# Altium schematic symbol library ModularPayload.SchLib: 60 symbols
Pins are listed as number, name and electrical type; pins without a type are passive.

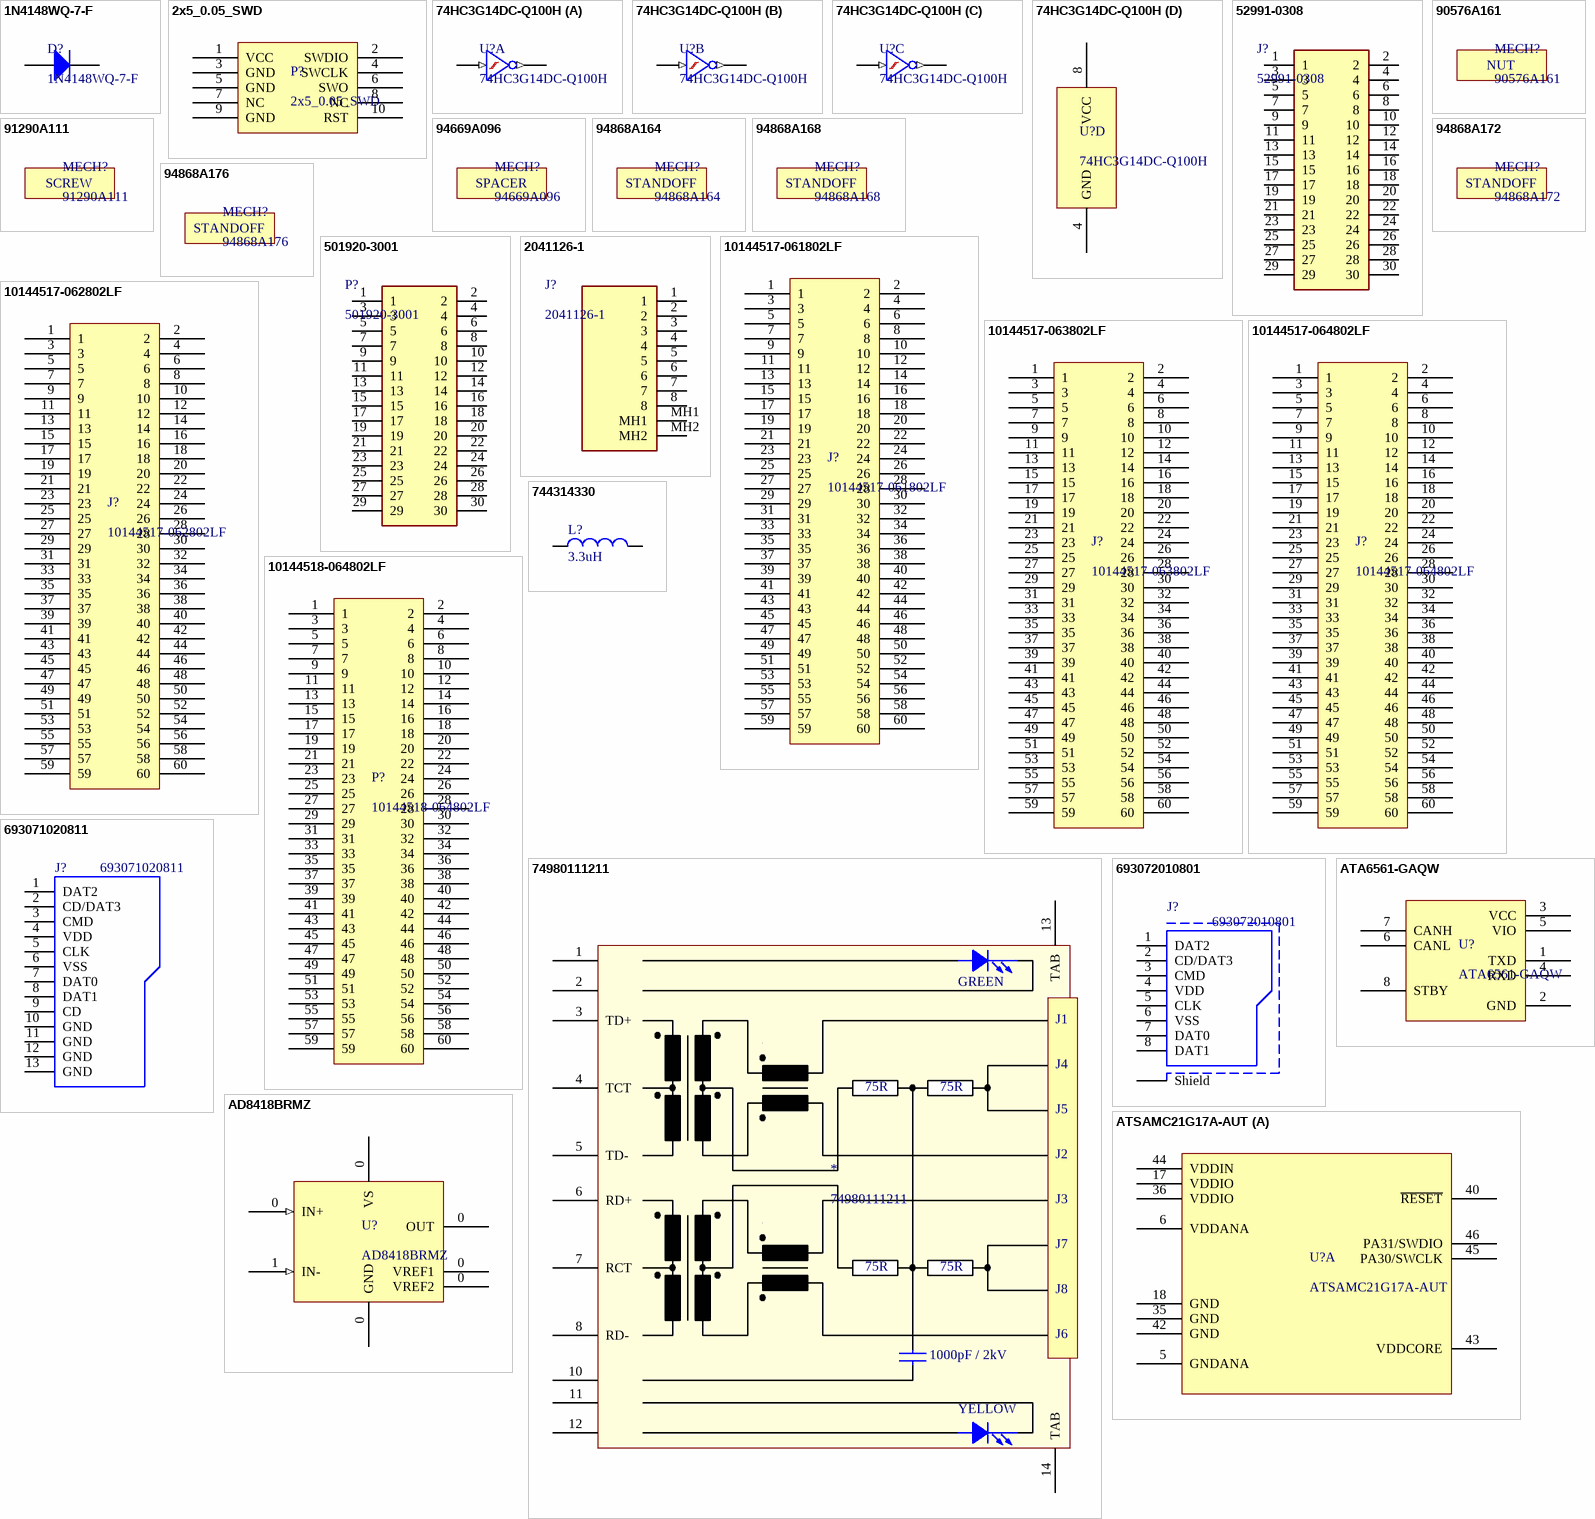
[diagram p0: symbols 1N4148WQ-7-F to ATSAMC21G17A-AUT]

## 1N4148WQ-7-F
designator D?
DIODE GEN PURP 100V 300MA SOD123; Unit Price (USD): 0.19
footprint SOD123 (SOD123 2-Leads, Body 1.55x2.70mm, Pitch 0.50mm, IPC Medium Density)
pins: A, A, K, K

## 2x5_0.05_SWD
designator P?
Unit Price (USD): 0.75
footprint 2x5_0.05_R
pins: 1 VCC, 2 SWDIO, 3 GND, 4 SWCLK, 5 GND, 6 SWO, 7 NC, 8 NC, 9 GND, 10 RST

## 74HC3G14DC-Q100H
designator U?
IC INVERTER SCHMITT 3CH 8VSSOP; Unit Price (USD): 0.66
footprint TSSOP50P310X100-8N (74HC3G14DC-Q100H) (TSSOP, 8-Leads, Body 2.00x2.30mm, Pitch 0.50mm, IPC Medium Density)
part A pins: 1 1A (in), 7 1Y (out)
part B pins: 3 2A (in), 5 2Y (out)
part C pins: 2 3Y (out), 6 3A (in)
part D pins: 4 GND, 8 VCC

## 52991-0308
designator J?
CONN RCPT 30POS SMD GOLD; Manufacturer_Name: Molex; Unit Price (USD): 1.43; Datasheet Link: https://www.molex.com/pdm_docs/sd/529910308_sd.pdf; Height: 2.47mm; Manufacturer_Part_Number: 52991-0308
footprint 529910308
pins: 1, 2, 3, 4, 5, 6, 7, 8, 9, 10, 11, 12, 13, 14, 15, 16, 17, 18, 19, 20, 21, 22, 23, 24, 25, 26, 27, 28, 29, 30

## 90576A161
designator MECH?
Unit Price (USD): 0.27
footprint 90576A161
text: NUT

## 91290A111
designator MECH?
Unit Price (USD): 0.0871
footprint 91290A111 (Footprint not found)
text: SCREW

## 94669A096
designator MECH?
Unit Price (USD): 0.41
footprint 94669A096 (Footprint not found)
text: SPACER

## 94868A164
designator MECH?
Unit Price (USD): 1..10
footprint 94868A164 (Footprint not found)
text: STANDOFF

## 94868A168
designator MECH?
Unit Price (USD): 1.30
footprint 94868A168 (Footprint not found)
text: STANDOFF

## 94868A172
designator MECH?
Unit Price (USD): 1.31
footprint 94868A172 (Footprint not found)
text: STANDOFF

## 94868A176
designator MECH?
Unit Price (USD): 1.32
footprint 94868A176 (Footprint not found)
text: STANDOFF

## 501920-3001
designator P?
CONN PLUG 30POS SMD GOLD; Manufacturer_Name: Molex; Unit Price (USD): 2.86; Datasheet Link: https://www.molex.com/pdm_docs/sd/5019203001_sd.pdf; Height: 3.62mm; Manufacturer_Part_Number: 501920-3001
footprint 5019203001
pins: 1, 2, 3, 4, 5, 6, 7, 8, 9, 10, 11, 12, 13, 14, 15, 16, 17, 18, 19, 20, 21, 22, 23, 24, 25, 26, 27, 28, 29, 30

## 2041126-1
designator J?
CONN MOD JACK 8P8C R/A SHLD; Unit Price (USD): 2.20
footprint TE_2041126-1
pins: 1, 2, 3, 4, 5, 6, 7, 8, MH1, MH2

## 10144517-061802LF
designator J?
CONN RCPT 60POS SMD GOLD; Unit Price (USD): 1.16
footprint 10144517-061802LF
pins: 1, 2, 3, 4, 5, 6, 7, 8, 9, 10, 11, 12, 13, 14, 15, 16, 17, 18, 19, 20, 21, 22, 23, 24, 25, 26, 27, 28, 29, 30, 31, 32, 33, 34, 35, 36, 37, 38, 39, 40, 41, 42, 43, 44, 45, 46, 47, 48, 49, 50, 51, 52, 53, 54, 55, 56, 57, 58, 59, 60

## 10144517-062802LF
designator J?
CONN RCPT 60POS SMD GOLD; Unit Price (USD): 1.28
footprint 10144517-062802LF
pins: 1, 2, 3, 4, 5, 6, 7, 8, 9, 10, 11, 12, 13, 14, 15, 16, 17, 18, 19, 20, 21, 22, 23, 24, 25, 26, 27, 28, 29, 30, 31, 32, 33, 34, 35, 36, 37, 38, 39, 40, 41, 42, 43, 44, 45, 46, 47, 48, 49, 50, 51, 52, 53, 54, 55, 56, 57, 58, 59, 60

## 10144517-063802LF
designator J?
CONN RCPT 60POS SMD GOLD; Unit Price (USD): 1.40
footprint 10144517-063802LF
pins: 1, 2, 3, 4, 5, 6, 7, 8, 9, 10, 11, 12, 13, 14, 15, 16, 17, 18, 19, 20, 21, 22, 23, 24, 25, 26, 27, 28, 29, 30, 31, 32, 33, 34, 35, 36, 37, 38, 39, 40, 41, 42, 43, 44, 45, 46, 47, 48, 49, 50, 51, 52, 53, 54, 55, 56, 57, 58, 59, 60

## 10144517-064802LF
designator J?
CONN RCPT 60POS SMD GOLD; Unit Price (USD): 1.95
footprint 10144517-064802LF
pins: 1, 2, 3, 4, 5, 6, 7, 8, 9, 10, 11, 12, 13, 14, 15, 16, 17, 18, 19, 20, 21, 22, 23, 24, 25, 26, 27, 28, 29, 30, 31, 32, 33, 34, 35, 36, 37, 38, 39, 40, 41, 42, 43, 44, 45, 46, 47, 48, 49, 50, 51, 52, 53, 54, 55, 56, 57, 58, 59, 60

## 10144518-064802LF
designator P?
CONN PLUG 60POS SMD GOLD; Unit Price (USD): 1.52
footprint 10144518-064802LF
pins: 1, 2, 3, 4, 5, 6, 7, 8, 9, 10, 11, 12, 13, 14, 15, 16, 17, 18, 19, 20, 21, 22, 23, 24, 25, 26, 27, 28, 29, 30, 31, 32, 33, 34, 35, 36, 37, 38, 39, 40, 41, 42, 43, 44, 45, 46, 47, 48, 49, 50, 51, 52, 53, 54, 55, 56, 57, 58, 59, 60

## 744314330
designator L?  value 3.3uH  (hidden comment: 744314330)
FIXED IND 3.3UH 9A 9 MOHM SMD; DCR: 9mohm; Isat: 8A; SFR: 65MHz; Tolerance: 20%; Unit Price (USD): 3.56; Imax: 9A
footprint INDM7050X50N (Wurth) (Molded Inductor, 2-Leads, Body 7.00x6.90mm, IPC Medium Density)
pins: 1, 2

## 74980111211
designator *
CONN JACK 1PORT 100 BASE-T SMD; Unit Price (USD): 7.51
pins: 1, 2, 3 TD+, 4 TCT, 5 TD-, 6 RD+, 7 RCT, 8 RD-, 10, 11, 12, 13 TAB (power), 14 TAB (power)
text: GREEN; J1; J4; 75R; J5; J2; J3; J7; J8; J6; 1000pF / 2kV; YELLOW

## 693071020811
designator J?
WR-CRD Micro SD Card Connector Push & Push; Contact Resistance: 100mOhm; Gender: Socket; Pin Number: 8; Working Voltage: 30VAC; Withstanding Voltage: 500VAC; Rated Current: 0.5A; Unit Price (USD): 3.71; ComponentLink1Description: Manufacturer; ComponentLink1URL: http://www.we-online.de; ComponentLink2Description: Datasheet; ComponentLink2URL: https://katalog.we-online.com/em/datasheet/693071020811.pdf; Packaging: Tape and Reel; Published Date: November 2019; Publisher: Wurth Elektronik; Mounting Technology: SMT; Operating Temperature: -40 to +85degC; Part Number: 693071020811; Type: Push & Push
footprint 693071020811
pins: 1 DAT2, 2 CD/DAT3, 3 CMD, 4 VDD, 5 CLK, 6 VSS, 7 DAT0, 8 DAT1, 9 CD, 10 GND, 11 GND, 12 GND, 13 GND

## 693072010801
designator J?
WR-CRD Micro SD Card Connector Hinge Type; Contact Resistance: 100mOhm; Gender: Socket; Pin Number: 8; Working Voltage: 100VAC; Withstanding Voltage: 500VAC; Rated Current: 0.5A; Unit Price (USD): 3.20; ComponentLink1Description: Manufacturer; ComponentLink1URL: http://www.we-online.de; ComponentLink2Description: Datasheet; ComponentLink2URL: https://katalog.we-online.com/em/datasheet/693072010801.pdf; Packaging: Tape and Reel; Published Date: November 2019; Publisher: Wurth Elektronik; Mounting Technology: SMT; Operating Temperature: -25 to +85degC; Part Number: 693072010801; Type: Hinge
footprint 693072010801
pins: 1 DAT2, 2 CD/DAT3, 3 CMD, 4 VDD, 5 CLK, 6 VSS, 7 DAT0, 8 DAT1, Shield

## AD8418BRMZ
designator U?
IC CURR SENSE 1 CIRCUIT 8MSOP
pins: 0 IN+ (in), 0 VS (power), 0 GND (power), 0 VREF2 (power), 0 VREF1 (power), 0 OUT (power), 1 IN- (in)

## ATA6561-GAQW
designator U?
IC TRANSCEIVER 1/1 CANbus 8-SO; Unit Price (USD): 0.53
footprint SOIC127P600X175-8N (SOIC, 8-Leads, Body 4.90x3.90mm, Pitch 1.27mm, IPC Medium Density)
pins: 1 TXD, 2 GND, 3 VCC, 4 RXD, 5 VIO, 6 CANL, 7 CANH, 8 STBY

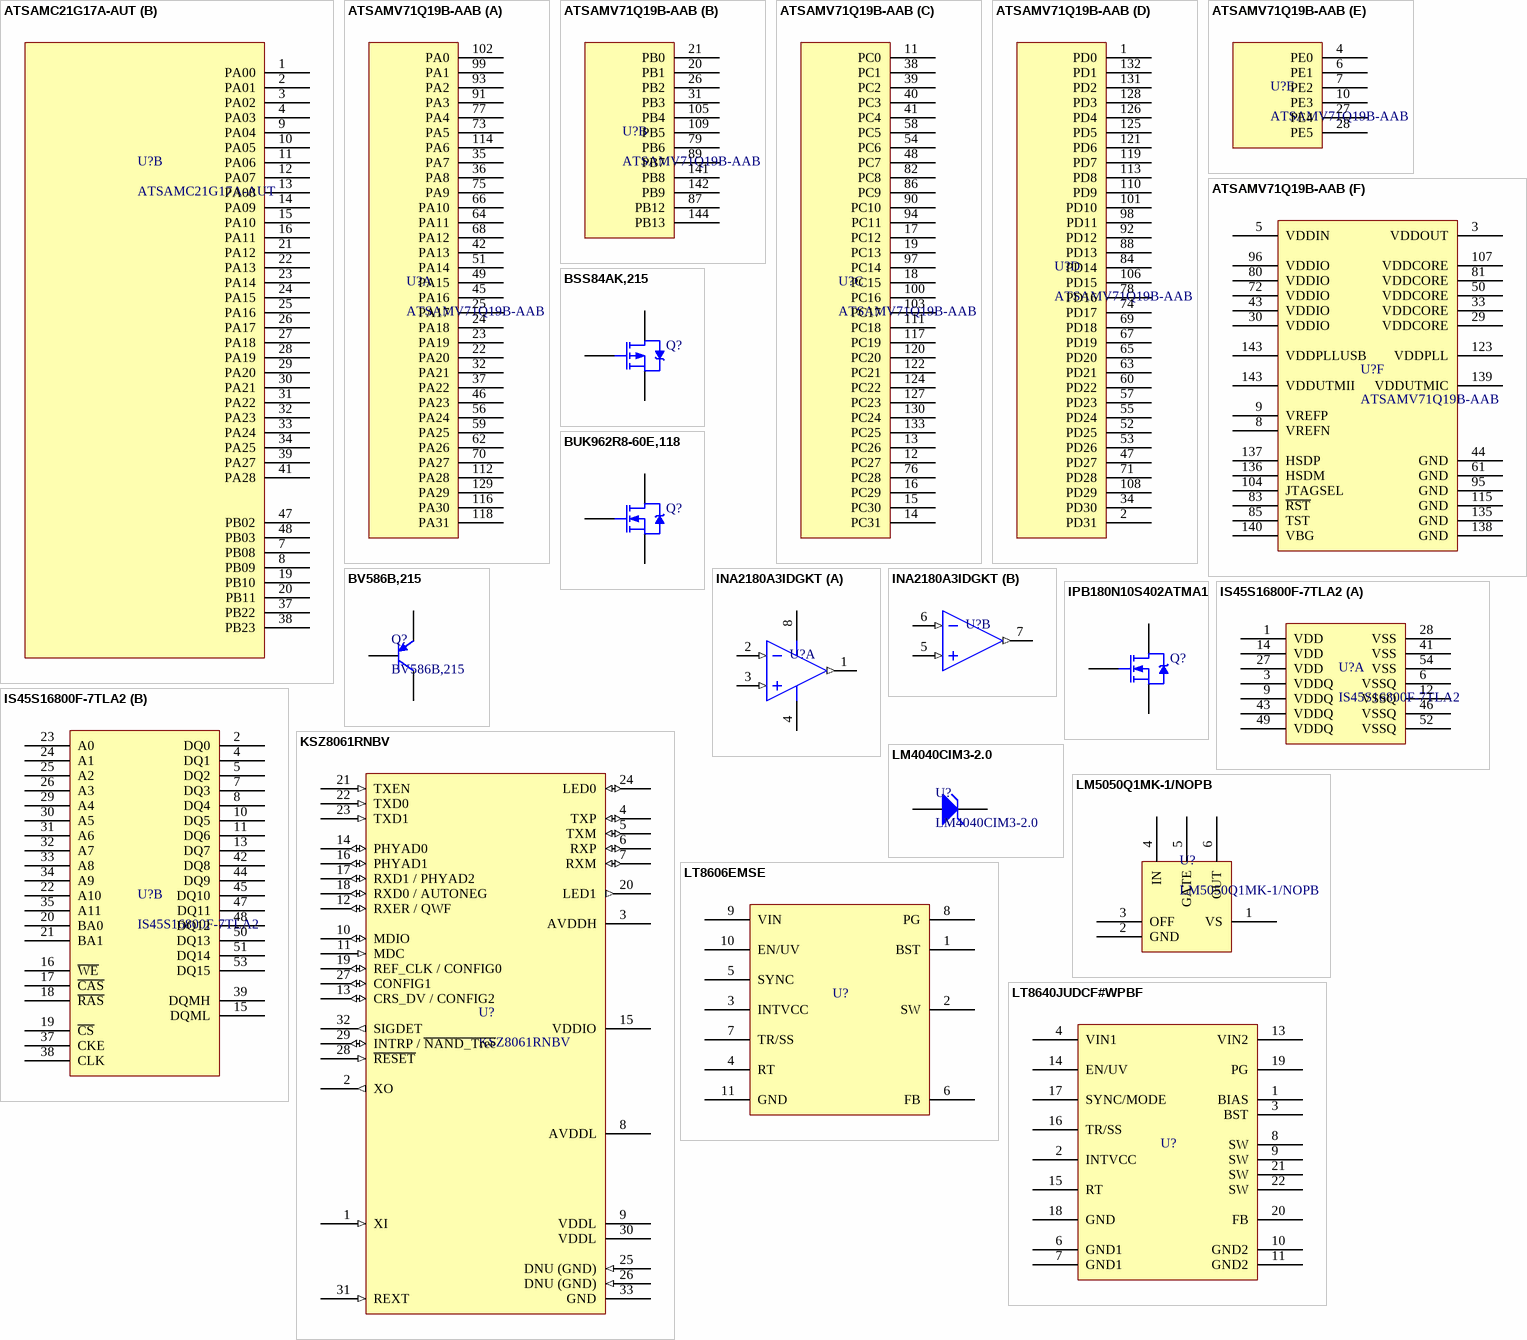
[diagram p1: symbols ATSAMC21G17A-AUT to LT8640JUDCF#WPBF]

## ATSAMC21G17A-AUT
designator U?
IC MCU 32BIT 128KB FLASH 48TQFP; Unit Price (USD): 2.35
footprint TSQFP50P900X900X120-48N (TSQFP, 48-Leads, Body 7.00x7.00mm, Pitch 0.50mm, IPC Medium Density)
part A pins: 5 GNDANA, 6 VDDANA, 17 VDDIO, 18 GND, 35 GND, 36 VDDIO, 40 ~{RESET}, 42 GND, 43 VDDCORE, 44 VDDIN, 45 PA30/SWCLK, 46 PA31/SWDIO
part B pins: 1 PA00, 2 PA01, 3 PA02, 4 PA03, 7 PB08, 8 PB09, 9 PA04, 10 PA05, 11 PA06, 12 PA07, 13 PA08, 14 PA09, 15 PA10, 16 PA11, 19 PB10, 20 PB11, 21 PA12, 22 PA13, 23 PA14, 24 PA15, 25 PA16, 26 PA17, 27 PA18, 28 PA19, 29 PA20, 30 PA21, 31 PA22, 32 PA23, 33 PA24, 34 PA25, 37 PB22, 38 PB23, 39 PA27, 41 PA28, 47 PB02, 48 PB03

## ATSAMV71Q19B-AAB
designator U?
IC MCU 32BIT 512KB FLASH 144LQFP; Unit Price (USD): 10.74
footprint TSQFP50P2200X2200X160-144N (TSQFP, 144-Leads, Body 20.00x20.00mm, Pitch 0.50mm, IPC Medium Density)
part A pins: 22 PA20, 23 PA19, 24 PA18, 25 PA17, 32 PA21, 35 PA7, 36 PA8, 37 PA22, 42 PA13, 45 PA16, 46 PA23, 49 PA15, 51 PA14, 56 PA24, 59 PA25, 62 PA26, 64 PA11, 66 PA10, 68 PA12, 70 PA27, 73 PA5, 75 PA9, 77 PA4, 91 PA3, 93 PA2, 99 PA1, 102 PA0, 112 PA28, 114 PA6, 116 PA30, 118 PA31, 129 PA29
part B pins: 20 PB1, 21 PB0, 26 PB2, 31 PB3, 79 PB6, 87 PB12, 89 PB7, 105 PB4, 109 PB5, 141 PB8, 142 PB9, 144 PB13
part C pins: 11 PC0, 12 PC27, 13 PC26, 14 PC31, 15 PC30, 16 PC29, 17 PC12, 18 PC15, 19 PC13, 38 PC1, 39 PC2, 40 PC3, 41 PC4, 48 PC7, 54 PC6, 58 PC5, 76 PC28, 82 PC8, 86 PC9, 90 PC10, 94 PC11, 97 PC14, 100 PC16, 103 PC17, 111 PC18, 117 PC19, 120 PC20, 122 PC21, 124 PC22, 127 PC23, 130 PC24, 133 PC25
part D pins: 1 PD0, 2 PD31, 34 PD30, 47 PD27, 52 PD25, 53 PD26, 55 PD24, 57 PD23, 60 PD22, 63 PD21, 65 PD20, 67 PD19, 69 PD18, 71 PD28, 74 PD17, 78 PD16, 84 PD14, 88 PD13, 92 PD12, 98 PD11, 101 PD10, 106 PD15, 108 PD29, 110 PD9, 113 PD8, 119 PD7, 121 PD6, 125 PD5, 126 PD4, 128 PD3, 131 PD2, 132 PD1
part E pins: 4 PE0, 6 PE1, 7 PE2, 10 PE3, 27 PE4, 28 PE5
part F pins: 3 VDDOUT, 5 VDDIN, 8 VREFN, 9 VREFP, 29 VDDCORE, 30 VDDIO, 33 VDDCORE, 43 VDDIO, 44 GND, 50 VDDCORE, 61 GND, 72 VDDIO, 80 VDDIO, 81 VDDCORE, 83 ~{RST}, 85 TST, 95 GND, 96 VDDIO, 104 JTAGSEL, 107 VDDCORE, 115 GND, 123 VDDPLL, 135 GND, 136 HSDM, 137 HSDP, 138 GND, 139 VDDUTMIC, 140 VBG, 143 VDDPLLUSB, 143 VDDUTMII

## BSS84AK,215
designator Q?  (value not drawn)
MOSFET P-CH 50V 180MA TO236AB; Rds: 7.5ohms; Vgs: 20V; Power Dissipation: 420mW; Qg: 0.26nC; Ciss: 36pF; Unit Price (USD): 0.20; Id: 180mA; VDS: 50V; Operating Temperature: -55°C ~ 150°C
footprint SOT95P230X110-3N (BSS84) (SOT23, 3-Leads, Body 2.90x2.30mm, Pitch 0.95mm, IPC Medium Density)
pins: D, G, S

## BUK962R8-60E,118
designator Q?  (value not drawn)
MOSFET N-CH 60V 120A D2PAK; Rds: 2.5mohm; Vgs: 10V; Power Dissipation: 324W; Qg: 92nC; Ciss: 15600pF; Unit Price (USD): 2.35; Id: 120A; VDS: 60V; Operating Temperature: -55°C ~ 175°C
pins: D, G, S

## BV586B,215
designator Q?
pins: B, C, E

## INA2180A3IDGKT
designator U?  (value not drawn)
IC CURR SENSE 2 CIRCUIT 8VSSOP; Unit Price (USD): 0.69
footprint TSOP65P490X110-8N (TSOP, 8-Leads, Body 3.00x3.00mm, Pitch 0.65mm, IPC Medium Density)
part A pins: 1 OUT1 (out), 2 IN-1 (in), 3 IN+1 (in), 4 GND (power), 8 VS (power)
part B pins: 5 IN+2 (in), 6 IN-2 (in), 7 OUT2 (out)

## IPB180N10S402ATMA1
designator Q?  (value not drawn)
MOSFET N-CH 100V 180A TO263-7; Rds: 2.5mohm; Vgs: 20V; Power Dissipation: 300W; Qg: 200nC; Ciss: 14600pF; Unit Price (USD): 5.65; Id: 180A; VDS: 100V; Operating Temperature: -55°C ~ 175°C
footprint DPAK127P1500X440-7N (PG-TO263-7-3) (D2-PAK, 7-Pads, Body 7.82x8.46mm (max), IPC Medium Density)
pins: D, G, S

## IS45S16800F-7TLA2
designator U?
IC DRAM 128MBIT PAR 54TSOP II; Unit Price (USD): 5.18
footprint TSOP80P1180X120-54N (TSOP, 54-Leads, Body 22.22x10.16mm, Pitch 0.80mm, IPC Medium Density)
part A pins: 1 VDD, 3 VDDQ, 6 VSSQ, 9 VDDQ, 12 VSSQ, 14 VDD, 27 VDD, 28 VSS, 41 VSS, 43 VDDQ, 46 VSSQ, 49 VDDQ, 52 VSSQ, 54 VSS
part B pins: 2 DQ0, 4 DQ1, 5 DQ2, 7 DQ3, 8 DQ4, 10 DQ5, 11 DQ6, 13 DQ7, 15 DQML, 16 ~{WE}, 17 ~{CAS}, 18 ~{RAS}, 19 ~{CS}, 20 BA0, 21 BA1, 22 A10, 23 A0, 24 A1, 25 A2, 26 A3, 29 A4, 30 A5, 31 A6, 32 A7, 33 A8, 34 A9, 35 A11, 37 CKE, 38 CLK, 39 DQMH, 42 DQ8, 44 DQ9, 45 DQ10, 47 DQ11, 48 DQ12, 50 DQ13, 51 DQ14, 53 DQ15

## KSZ8061RNBV
designator U?
PHY 2-CH 10Mbps/100Mbps 3.3V Automotive 32-Pin WQFN EP Tray; Unit Price (USD): 2.17
footprint QFN50P500X500X90_HS-33N (KSZ8061RNBV) (QFN, 32-Leads, Body 5.00x5.00mm, Pitch 0.50mm, Thermal Pad 3.40x3.40mm, IPC Medium Density)
pins: 1 XI (in), 2 XO (out), 3 AVDDH (power), 4 TXP (io), 5 TXM (io), 6 RXP (io), 7 RXM (io), 8 AVDDL (power), 9 VDDL (power), 10 MDIO (io), 11 MDC (in), 12 RXER / QWF (io), 13 CRS_DV / CONFIG2 (io), 14 PHYAD0 (io), 15 VDDIO (power), 16 PHYAD1 (io), 17 RXD1 / PHYAD2 (io), 18 RXD0 / AUTONEG (io), 19 REF_CLK / CONFIG0 (io), 20 LED1 (out), 21 TXEN (in), 22 TXD0 (in), 23 TXD1 (in), 24 LED0 (io), 25 DNU (GND) (in), 26 DNU (GND) (in), 27 CONFIG1 (io), 28 ~{RESET} (in), 29 INTRP / ~{NAND_Tree} (io), 30 VDDL (power), 31 REXT (in), 32 SIGDET (out), 33 GND (power)

## LM4040CIM3-2.0
designator U?
IC VREF SHUNT 0.5% SOT23-3; Unit Price (USD): 0.69
footprint SOT95P237X112-3N (LM4040) (SOT23, 3-Leads, Body 2.92x2.37mm, Pitch 0.95mm, IPC Medium Density)
pins: A, K

## LM5050Q1MK-1/NOPB
designator U?
IC OR CTRLR N+1 6SOT; Unit Price (USD): 2.35
footprint SOT95P280X110-6N (SOT23, 6-Leads, Body 2.90x2.80mm, Pitch 0.95mm, IPC Medium Density)
pins: 1 VS, 2 GND, 3 OFF, 4 IN, 5 GATE, 6 OUT

## LT8606EMSE
designator U?  (value not drawn)
IC REG BUCK ADJ 350MA 10MSOP; Unit Price (USD): 5.10
footprint TSSOP50P490X110_HS-11N (LT8606MSE) (TSSOP, 10-Leads, Body 3.50x3.00mm, Pitch 0.50mm, Thermal Pad 1.88x1.68mm, IPC Medium Density)
pins: 1 BST, 2 SW, 3 INTVCC, 4 RT, 5 SYNC, 6 FB, 7 TR/SS, 8 PG, 9 VIN, 10 EN/UV, 11 GND

## LT8640JUDCF#WPBF
designator U?  (value not drawn)
42V, 5A SYNC BUCK SILENT SWITCHE; Unit Price (USD): 13.92
footprint QFN50P300X400X80_HS-21N (LT8640) (QFN, 20-Leads, Body 3.00x4.00mm, Pitch 0.50mm, Thermal Pad 1.00x1.00mm, IPC Medium Density)
pins: 1 BIAS, 2 INTVCC, 3 BST, 4 VIN1, 6 GND1, 7 GND1, 8 SW, 9 SW, 10 GND2, 11 GND2, 13 VIN2, 14 EN/UV, 15 RT, 16 TR/SS, 17 SYNC/MODE, 18 GND, 19 PG, 20 FB, 21 SW, 22 SW

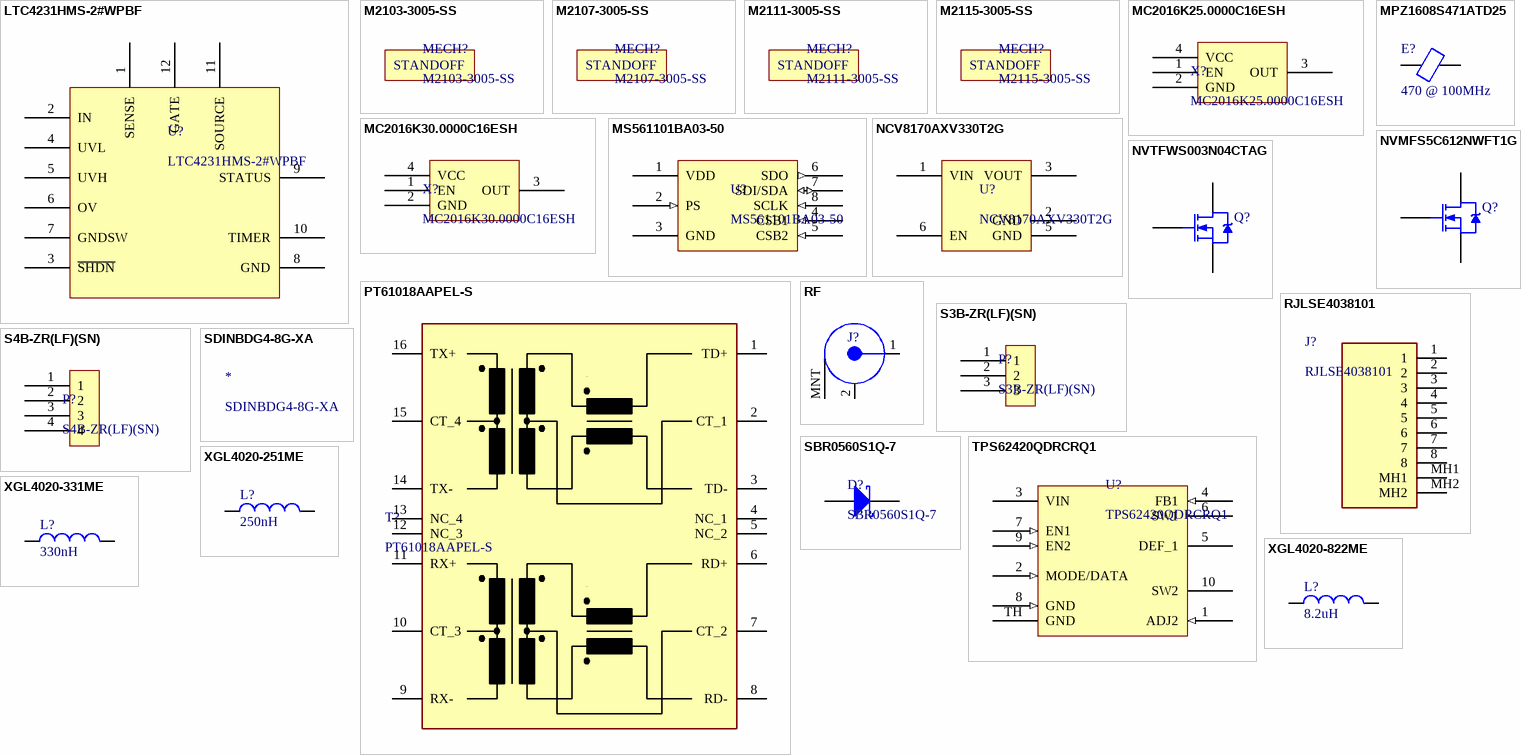
[diagram p2: symbols LTC4231HMS-2#WPBF to XGL4020-822ME]

## LTC4231HMS-2#WPBF
designator U?
UP HOT SWAP CNTR; Unit Price (USD): 8.24
footprint TSOP65P490X109-12N (TSOP, 12-Leads, Body 4.04x3.00mm, Pitch 0.65mm, IPC Medium Density)
pins: 1 SENSE, 2 IN, 3 ~{SHDN}, 4 UVL, 5 UVH, 6 OV, 7 GNDSW, 8 GND, 9 STATUS, 10 TIMER, 11 SOURCE, 12 GATE

## M2103-3005-SS
designator MECH?
HEX STANDOFF M3X0.5 SS 8MM; Unit Price (USD): 1.41
footprint M2103-3005-SS
text: STANDOFF

## M2107-3005-SS
designator MECH?
HEX STANDOFF M3X0.5 SS 12MM; Unit Price (USD): 1.55
footprint M2107-3005-SS (Footprint not found)
text: STANDOFF

## M2111-3005-SS
designator MECH?
HEX STANDOFF M3X0.5 SS 16MM; Unit Price (USD): 1.68
footprint M2111-3005-SS (Footprint not found)
text: STANDOFF

## M2115-3005-SS
designator MECH?
HEX STANDOFF M3X0.5 SS 20MM; Unit Price (USD): 1.81
footprint M2115-3005-SS (Footprint not found)
text: STANDOFF

## MC2016K25.0000C16ESH
designator X?
XTAL OSC XO 25.0000MHZ CMOS SMD; Unit Price (USD): 2.15
footprint MC2016
pins: 1 EN, 2 GND, 3 OUT, 4 VCC

## MC2016K30.0000C16ESH
designator X?
XTAL OSC XO 30.0000MHZ CMOS SMD; Unit Price (USD): 2.37
footprint MC2016
pins: 1 EN, 2 GND, 3 OUT, 4 VCC

## MPZ1608S471ATD25
designator E?  value 470 @ 100MHz  (hidden comment: MPZ1608S471ATD25)
FERRITE BEAD 470 OHM 0603 1LN; DCR: 150mohm; Imax: 1A; Unit Price (USD): 0.10
pins: 1, 2

## MS561101BA03-50
designator U?
BAROMETRIC PRESSURE SENSOR; Unit Price (USD): 12.22
footprint MS561101BA03-50
pins: 1 VDD (power), 2 PS (in), 3 GND (power), 4 CSB1 (in), 5 CSB2 (in), 6 SDO (out), 7 SDI/SDA (io), 8 SCLK (in)

## NCV8170AXV330T2G
designator U?
IC REG LIN 3.3V 150MA SOT563-6; Unit Price (USD): 0.44
footprint SOTFL50P160X60-6N (SOTFL, 6-Leads, Body 1.60x1.60mm, Pitch 0.50mm, IPC Medium Density)
pins: 1 VIN, 2 GND, 3 VOUT, 5 GND, 6 EN

## NVMFS5C612NWFT1G
designator Q?  (value not drawn)
MOSFET N-CH 60V 34A/225A 5DFN; Rds: 1.65mohm; Vgs: 20V; Power Dissipation: 3.8W; Id: 34A; Qg: 62nC; Ciss: 4900pF; Unit Price (USD): 2.19; VDS: 60V; Operating Temperature: -55°C ~ 175°C
pins: D, G, S

## NVTFWS003N04CTAG
designator Q?  (value not drawn)
MOSFET N-CH 40V 22A/103A 8WDFN; Rds: 3.5mohm; Vgs: 20V; Power Dissipation: 3.2W; Id: 22A; Qg: 23nC; Ciss: 1600pF; Unit Price (USD): 0.74; VDS: 40V; Operating Temperature: -55°C ~ 175°C
footprint DFN065P305X80-8N (DFN, 8-Leads, Body 3.05x3.05mm, Pitch 0.65mm, IPC Medium Density)
pins: D, G, S

## PT61018AAPEL-S
designator T?
PULSE XFMR 1CT:1CT 350UH; Manufacturer_Name: Bourns; Unit Price (USD): 4.63; Datasheet Link: http://www.bourns.com/docs/Product-Datasheets/pt61018aapel-s.pdf?sfvrsn=2; Height: 5.9mm; Manufacturer_Part_Number: PT61018AAPEL-S
footprint SOIC127P930X590-16N
pins: 1 TD+, 2 CT_1, 3 TD-, 4 NC_1, 5 NC_2, 6 RD+, 7 CT_2, 8 RD-, 9 RX-, 10 CT_3, 11 RX+, 12 NC_3, 13 NC_4, 14 TX-, 15 CT_4, 16 TX+

## RF
designator J?  (value not drawn)
footprint BNC R/A
pins: 1, 2, MNT

## RJLSE4038101
designator J?
CONN MOD JACK 8P8C R/A SHLD; Manufacturer_Name: Amphenol; Unit Price (USD): 1.35; Datasheet Link: https://componentsearchengine.com//RJLSE4038101.pdf; Height: 11.85mm; Mouser2 Part Number: 523-RJLSE4038101; Mouser2 Price/Stock: https://www.mouser.com/Search/Refine.aspx?Keyword=523-RJLSE4038101; Manufacturer_Part_Number: RJLSE4038101
footprint RJLSE4038101
pins: 1, 2, 3, 4, 5, 6, 7, 8, MH1, MH2

## S3B-ZR(LF)(SN)
designator P?
CONN HEADER R/A 3POS 1.5MM; Unit Price (USD): 0.20
footprint S3B-ZR(LF)(SN)
pins: 1, 2, 3

## S4B-ZR(LF)(SN)
designator P?
CONN HEADER R/A 4POS 1.5MM; Unit Price (USD): 0.24
footprint S4B-ZR(LF)(SN)
pins: 1, 2, 3, 4

## SBR0560S1Q-7
designator D?
DIODE SBR 60V 500MA SOD123; Unit Price (USD): 0.37
footprint SOD123 (SOD123 2-Leads, Body 1.55x2.70mm, Pitch 0.50mm, IPC Medium Density)
pins: A, K

## SDINBDG4-8G-XA
designator *

## TPS62420QDRCRQ1
designator U?
IC REG BUCK ADJ 0.6A/1A DL 10SON
pins: 1 ADJ2 (in), 2 MODE/DATA (in), 3 VIN (power), 4 FB1 (in), 5 DEF_1, 6 SW1, 7 EN1 (in), 8 GND (in), 9 EN2 (in), 10 SW2, TH GND

## XGL4020-251ME
designator L?  value 250nH  (hidden comment: XGL4020-251ME)
SHIELDED POWER INDUCTORS, 0.25UH; DCR: 3.0mohm; Isat: 16.5A; Imax: 24A; SFR: 130MHz; Unit Price (USD): 2.40
footprint INDM4040X21N (XGL4020) (Molded Inductor, 2-Leads, Body 4.00x4.00mm, IPC Medium Density)
pins: 1, 2

## XGL4020-331ME
designator L?  value 330nH  (hidden comment: XGL4020-331ME)
SHIELDED POWER INDUCTORS, 0.33UH; DCR: 3.6mohm; Isat: 15.2A; Imax: 23A; SFR: 110MHz; Unit Price (USD): 2.40
footprint INDM4040X21N (XGL4020) (Molded Inductor, 2-Leads, Body 4.00x4.00mm, IPC Medium Density)
pins: 1, 2

## XGL4020-822ME
designator L?  value 8.2uH  (hidden comment: XGL4020-822ME)
SHIELDED POWER INDUCTORS, 8.2UH; DCR: 78.1mohm; Isat: 3.2A; Imax: 4.1A; SFR: 20MHz; Unit Price (USD): 2.40
footprint INDM4040X21N (XGL4020) (Molded Inductor, 2-Leads, Body 4.00x4.00mm, IPC Medium Density)
pins: 1, 2